# EAGLE library part CD28 (library mynixies)
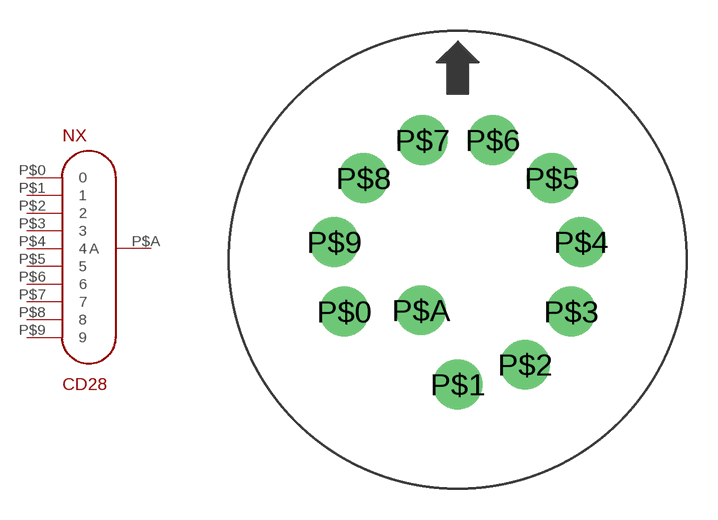
[diagram p29: symbol with the pads of CD28; footprint CD28]

Designator prefix NX

## CD28  [CD28]
P$0  0  pas
P$1  1  pas
P$2  2  pas
P$3  3  pas
P$4  4  pas
P$5  5  pas
P$6  6  pas
P$7  7  pas
P$8  8  pas
P$9  9  pas
P$A  A  pas

## Footprint CD28 (pad centres in mm)
drill 1.6: P$0 -5.457,-2.495; P$1 0,-6; P$2 3.244,-5.047; P$3 5.458,-2.492; P$4 5.939,0.855; P$5 4.534,3.93; P$6 1.689,5.757; P$7 -1.692,5.756; P$8 -4.536,3.928; P$9 -5.939,0.852; P$A -1.763,-2.427